# Altium schematic symbol library FS312F-G.SchLib: 1 symbol
Pins are listed as number, name and electrical type; pins without a type are passive.

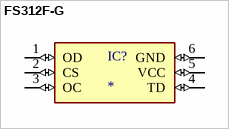
[diagram p0: symbol FS312F-G]

## FS312F-G
designator IC?
Battery Protection IC LCSC C82736; MP: FS312F-G; MF: Fortune Semiconductor; Price: None; SnapEDA_Link: https://www.snapeda.com/parts/FS312F-G/Fortune+Semiconductor/view-part/?ref=snap; Availability: Not in stock; Check_prices: https://www.snapeda.com/parts/FS312F-G/Fortune+Semiconductor/view-part/?ref=eda; Value: *; Package: Package
footprint SOT23-6
pins: 1 OD (io), 2 CS (io), 3 OC (io), 4 TD (io), 5 VCC (io), 6 GND (io)